# Altium schematic symbol library header_4_trm.SchLib: 1 symbol
Pins are listed as number, name and electrical type; pins without a type are passive.

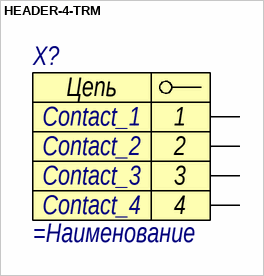
[diagram p0: symbol HEADER-4-TRM]

## HEADER-4-TRM
designator X?
=Описание; Contact_1: Contact_1; Contact_2: Contact_2; Contact_3: Contact_3; Contact_4: Contact_4
pins: 1, 2, 3, 4
text: Цепь